# Altium schematic symbol library Sch_Lib.SchLib: 794 symbols (part 2 of 9)
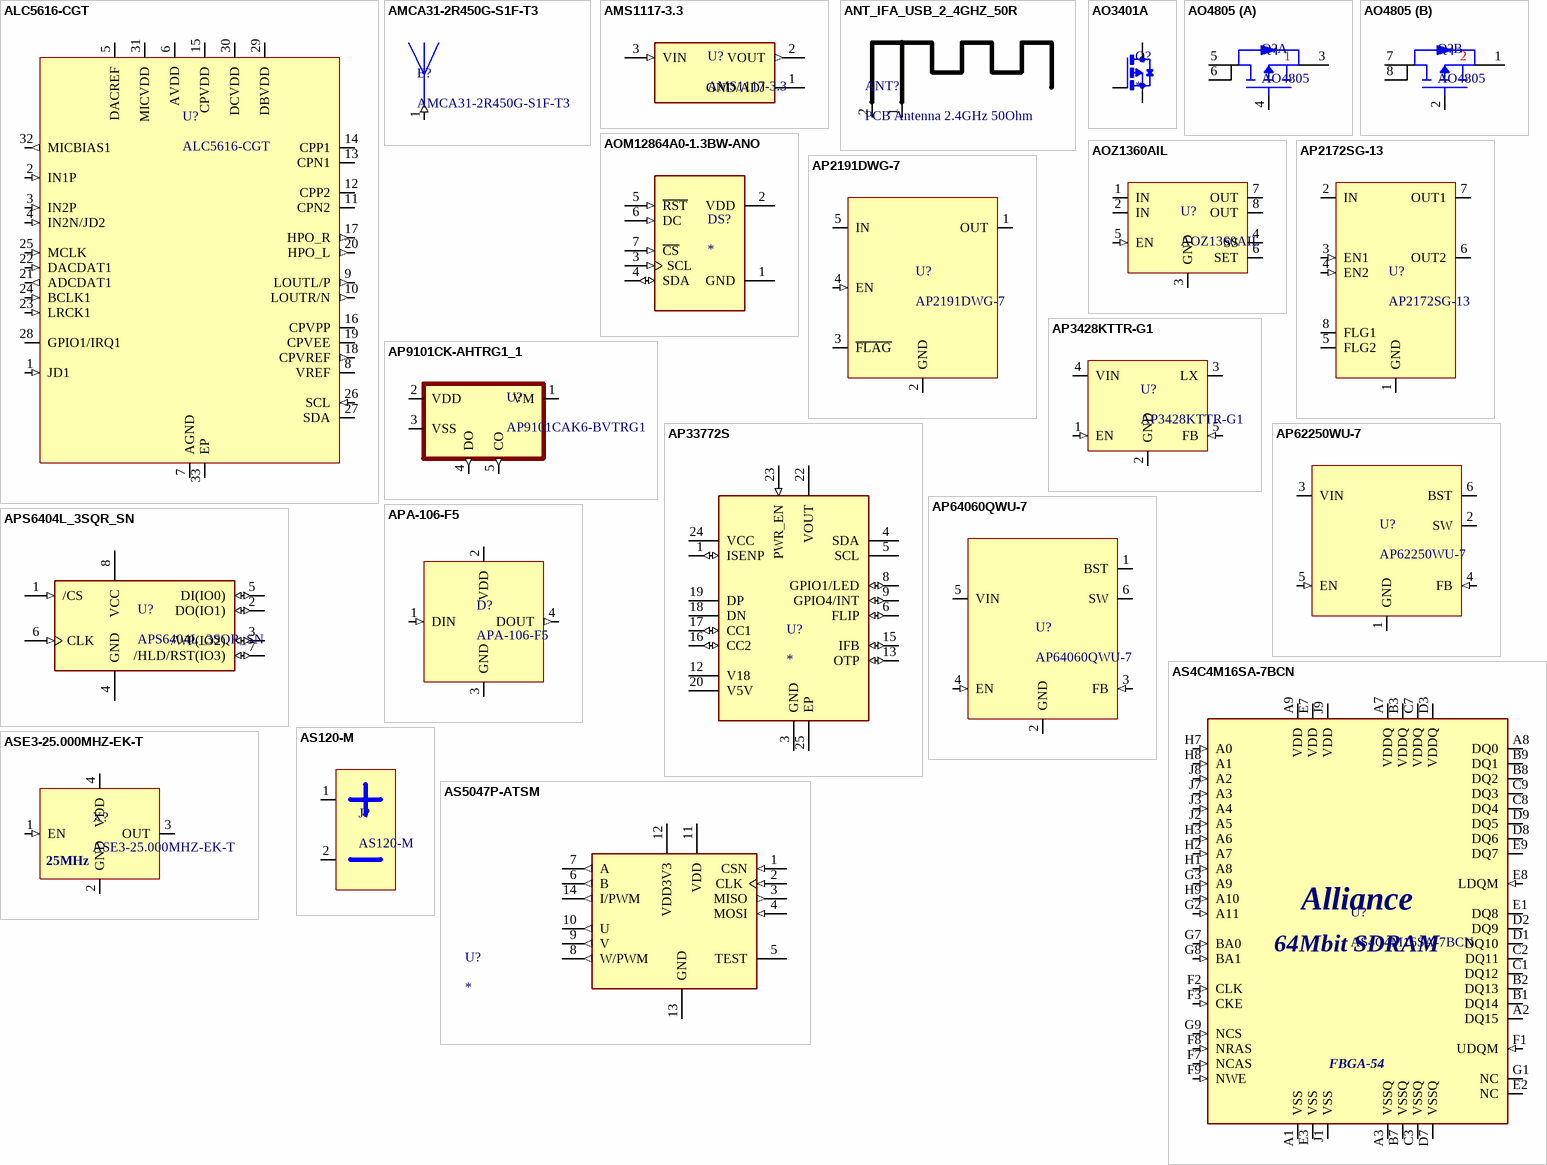
[diagram p46: symbols ALC5616-CGT to ASE3-25.000MHZ-EK-T]

## ALC5616-CGT
designator U?
Ultra-Low Power Audio CODEC; Manufacturer: Realtek; Manufacturer Part Number: ALC5616-CGT
footprint QFN-32-4x4 (QFN, 32-Leads, Body 4.00x4.00mm, Pitch 0.40mm, Thermal Pad 2.70x2.70mm, IPC Medium Density)
pins: 1 JD1 (in), 2 IN1P (in), 3 IN2P (in), 4 IN2N/JD2 (in), 5 DACREF (power), 6 AVDD (power), 7 AGND (power), 8 VREF (power), 9 LOUTL/P (out), 10 LOUTR/N (out), 11 CPN2 (power), 12 CPP2 (power), 13 CPN1 (power), 14 CPP1 (power), 15 CPVDD (power), 16 CPVPP, 17 HPO_R (out), 18 CPVREF (out), 19 CPVEE, 20 HPO_L (out), 21 ADCDAT1 (out), 22 DACDAT1 (in), 23 LRCK1 (in), 24 BCLK1 (in), 25 MCLK (in), 26 SCL (in), 27 SDA (io), 28 GPIO1/IRQ1 (io), 29 DBVDD (power), 30 DCVDD (power), 31 MICVDD (power), 32 MICBIAS1 (out), 33 EP (power)

## AMCA31-2R450G-S1F-T3
designator E?
2.4GHz Bluetooth, Wi-Fi, WLAN Chip RF Antenna 2.405GHz ~ 2.495GHz 0.5dBi Solder Surface Mount; MF: Abracon LLC; Check_prices: https://www.snapeda.com/parts/AMCA31-2R450G-S1F-T3/Abracon+LLC/view-part/?ref=eda; Purchase-URL: https://pricing.snapeda.com/search/part/AMCA31-2R450G-S1F-T3/?ref=eda; Value: *; Availability: In Stock; Package: None; SnapEDA_Link: https://www.snapeda.com/parts/AMCA31-2R450G-S1F-T3/Abracon+LLC/view-part/?ref=snap; MP: AMCA31-2R450G-S1F-T3; Price: None
footprint XDCR_AMCA31-2R450G-S1F-T3
pins: 1 (in)

## AMS1117-3.3
designator U?
Sot223/Pkg 1-Amp 3.3-Volt Low Drop Out Voltage Regulatator; MF: Advanced Monolithic Systems; Package: SOT-223 Seeed Technology; Value: *; Check_prices: https://www.snapeda.com/parts/AMS1117-3.3/Advanced+Monolithic+Systems/view-part/?ref=eda; Price: None; Availability: Not in stock; MP: AMS1117-3.3; SnapEDA_Link: https://www.snapeda.com/parts/AMS1117-3.3/Advanced+Monolithic+Systems/view-part/?ref=snap
footprint SOT229P700X180-4N
pins: 1 GND/ADJ (power), 2 VOUT (out), 3 VIN (in)

## ANT_IFA_USB_2_4GHZ_50R
designator ANT?, comment PCB Antenna 2.4GHz 50Ohm  (no BOM)
Inverted F 2.4GHz ISM PCB Antenna 50 Ohm; ComponentLink1Description: Datasheet; ComponentLink1URL: https://www.ti.com/lit/an/swra117d/swra117d.pdf
footprint ANT_IFA_USB_2_4GHZ_50R
pins: 1 RF, 2 GND

## AO3401A
designator Q?
P-Channel 30 V 4A (Ta) 1.4W (Ta) Surface Mount SOT-23-3; MF: Alpha & Omega Semiconductor; MP: AO3401A; SnapEDA_Link: https://www.snapeda.com/parts/AO3401A/Alpha/view-part/?ref=snap; Package: SOT-23 Alpha &amp; Omega Semiconductor; Value: *; Check_prices: https://www.snapeda.com/parts/AO3401A/Alpha/view-part/?ref=eda
footprint SOT23
pins: 1 G, 2 S, 3 D

## AO4805
designator Q?
MOSFET P-Channel Vds=-30V Vgs=+-25V Id=-9A Rds(on|=18mOhms; Manufacturer: Alpha & Omega Semicon; Manufacturer Part Number: AO4805; LCSC: C38943
footprint SOIC-8 (SOIC, 8-Leads, Body 4.91x3.90mm, Pitch 1.27mm, IPC Medium Density)
part A pins: 3 S1, 4 G1, 5 D1, 6 D1
part B pins: 1 S2, 2 G2, 7 D2, 8 D2

## AOM12864A0-1.3BW-ANO
designator DS?
Non-Touch Graphic LCD Display Module - Blue OLED SPI 1.3 (33.02mm) 128 x 64; MF: Orient Display; MP: AOM12864A0-1.3BW-ANO; SnapEDA_Link: https://www.snapeda.com/parts/AOM12864A0-1.3BW-ANO/Orient+Display/view-part/?ref=snap; Package: None; Value: *; Check_prices: https://www.snapeda.com/parts/AOM12864A0-1.3BW-ANO/Orient+Display/view-part/?ref=eda
footprint LCD_AOM12864A0-1.3BW-ANO
pins: 1 GND (power), 2 VDD (power), 3 SCL (in), 4 SDA (io), 5 ~{RST} (in), 6 DC (in), 7 ~{CS} (in)

## AOZ1360AIL
designator U?
28V Programmable Current-Limited Load Switch SO-8; Manufacturer: ALPHA & OMEGA SEMICON; Manufacturer Part Number: AOZ1360AIL
footprint SO-8L (SOIC, 8-Leads, Body 4.90x3.90mm, Pitch 1.27mm, IPC Medium Density)
pins: 1 IN (power), 2 IN (power), 3 GND (power), 4 SS, 5 EN (in), 6 SET (power), 7 OUT (power), 8 OUT (power)

## AP2172SG-13
designator U?
1A DUAL CHANNEL CURRENT-LIMITED POWER SWITCH Enable Active High; Manufacturer: Diodes Incorporated; Manufacturer Part Number: AP2172SG-13
footprint SO-8L (SOIC, 8-Leads, Body 4.90x3.90mm, Pitch 1.27mm, IPC Medium Density)
pins: 1 GND (power), 2 IN (power), 3 EN1 (in), 4 EN2 (in), 5 FLG2 (oc), 6 OUT2 (power), 7 OUT1 (power), 8 FLG1 (oc)

## AP2191DWG-7
designator U?
1.5A SINGLE CHANNEL CURRENT-LIMITED POWER SWITCH WITH OUTPUT DISCHARGE (ENABLE ACTIVE HIGH); Manufacturer: Diodes Incorporated; Manufacturer Part Number: AP2191DWG-7; Distributor Link: https://www.mouser.de/ProductDetail/Diodes-Incorporated/AP2191DWG-7?qs=abZ1nkZpTuNuhhoAfnXVRw%3D%3D
footprint SOT-23-5 (SOT23, 5-Leads, Body 2,90x2,80mm, Pitch 0,95mm, IPC Medium Density)
pins: 1 OUT (power), 2 GND (power), 3 ~{FLAG} (oc), 4 EN (in), 5 IN (power)

## AP3428KTTR-G1
designator U?
1.5MHZ, 1A STEP-DOWN DC-DC BUCK CONVERTER; Manufacturer: Diodes Incorporated; Manufacturer Part Number: AP3428KTTR-G1
footprint TSOT25 (SOT23, 5-Leads, Body 2.90x2.80mm, Pitch 0.95mm, IPC Medium Density)
pins: 1 EN (in), 2 GND (power), 3 LX (power), 4 VIN (power), 5 FB (in)

## AP9101CK-AHTRG1_1
designator U?, comment AP9101CAK6-BVTRG1
1-Cell Li-On Battery Charger and Protection IC; Manufacturer: Diodes Incorporated; Manufacturer Part Number: AP9101CAK6-BVTRG1; Distributor Link: https://www.mouser.de/ProductDetail/Diodes-Incorporated/AP9101CAK6-BVTRG1?qs=lQAVKuKFhkK%2FBM4lfGfubA%3D%3D
footprint SOT-23-5 (SOT23, 5-Leads, Body 2,90x2,80mm, Pitch 0,95mm, IPC Medium Density)
pins: 1 VM (power), 2 VDD (power), 3 VSS (power), 4 DO (out), 5 CO (out)

## AP33772S
designator U?
USB Controller, PD Sink USB 3.0 USB Interface W-QFN4040-24 (Type A1); MF: Diodes Incorporated; MP: AP33771DKZ-13; Package: None; Price: None; Check_prices: https://www.snapeda.com/parts/AP33771DKZ-13/Diodes+Inc./view-part/?ref=eda; Value: *; SnapEDA_Link: https://www.snapeda.com/parts/AP33771DKZ-13/Diodes+Inc./view-part/?ref=snap; Availability: In Stock; Purchase-URL: https://pricing.snapeda.com/search?q=AP33771DKZ-13&ref=eda
footprint IC_AP33772S
pins: 1 ISENP (io), 3 GND (power), 4 SDA, 5 SCL, 6 FLIP (io), 8 GPIO1/LED (io), 9 GPIO4/INT (io), 12 V18 (power), 13 OTP (io), 15 IFB (io), 16 CC2 (io), 17 CC1 (io), 18 DN, 19 DP, 20 V5V (power), 22 VOUT (power), 23 PWR_EN (in), 24 VCC (power), 25 EP (power)

## AP62250WU-7
designator U?
4.2V TO 18V INPUT, 2.5A LOW IQ SYNCHRONOUS BUCK CONVERTER; Manufacturer: Diodes Incorporated; Manufacturer Part Number: AP62250WU-7; Distributor Link: https://www.mouser.de/ProductDetail/Diodes-Incorporated/AP62250WU-7?qs=7MVldsJ5Uax1PUc8sdeimQ%3D%3D
footprint TSOT-26-6 (TSOP, 6-Leads, Body 2.90x1.60mm, Pitch 0.95mm, IPC Medium Density)
pins: 1 GND (power), 2 SW (power), 3 VIN (power), 4 FB (in), 5 EN (in), 6 BST (power)

## AP64060QWU-7
designator U?
4.5V TO 40V INPUT, 600mA SYNCHRONOUS BUCK WITH ENHANCED EMI REDUCTION; Manufacturer: Diodes Incorporated; Manufacturer Part Number: AP64060QWU-7; Distributor Link: https://eu.mouser.com/ProductDetail/Diodes-Incorporated/AP64060QWU-7?qs=Li%252BoUPsLEnvtPycFvZmEcQ%3D%3D
footprint TSOT-26-6 (TSOP, 6-Leads, Body 2.90x1.60mm, Pitch 0.95mm, IPC Medium Density)
pins: 1 BST (power), 2 GND (power), 3 FB (in), 4 EN (in), 5 VIN (power), 6 SW (power)

## APA-106-F5
designator D?
Addressable RGB LED 5MM THT; Manufacturer: iPixel; Manufacturer Part Number: APA-106-F5; Datasheet: https://www.mouser.de/datasheet/2/813/COM_12877-2489746.pdf
footprint LED_RGB_5MM_THT
pins: 1 DIN (in), 2 VDD (power), 3 GND (power), 4 DOUT (out)

## APS6404L_3SQR_SN
designator U?
SOP-8L 8MB DRAM ROHS; MPN: APS6404L-3SQN-SN; Manufacturer: AP Memory; LCSC NO: C3028887; ComponentLink1Description: LCSC Link; ComponentLink1URL: https://www.lcsc.com/product-detail/DRAM_AP-Memory-APS6404L-3SQN-SN_C3028887.html?s_z=n_APS6404L-32qr-sn
footprint SOIC-8 (SOIC, 8-Leads, Body 4.91x3.90mm, Pitch 1.27mm, IPC Medium Density)
pins: 1 /CS (in), 2 DO(IO1) (io), 3 /WP(IO2) (io), 4 GND (power), 5 DI(IO0) (io), 6 CLK (in), 7 /HLD/RST(IO3) (io), 8 VCC (power)

## AS4C4M16SA-7BCN
designator U?
64M (4M x 16 bit) Synchronous DRAM (SDRAM) FBGA-54; Manufacturer: Alliance Memory; Manufacturer Part Number: AS4C4M16SA-7BCN
footprint BGA54C80P9X9_800X800X120 (BGA, 54-Leads, Body 8.00x8.00mmx1.20mm, Pitch 0.80mm)
pins: A1 VSS (power), A2 DQ15 (io), A3 VSSQ (power), A7 VDDQ (power), A8 DQ0 (io), A9 VDD (power), B1 DQ14 (io), B2 DQ13 (io), B3 VDDQ (power), B7 VSSQ (power), B8 DQ2 (io), B9 DQ1 (io), C1 DQ12 (io), C2 DQ11 (io), C3 VSSQ (power), C7 VDDQ (power), C8 DQ4 (io), C9 DQ3 (io), D1 DQ10 (io), D2 DQ9 (io), D3 VDDQ (power), D7 VSSQ (power), D8 DQ6 (io), D9 DQ5 (io), E1 DQ8 (io), E2 NC, E3 VSS (power), E7 VDD (power), E8 LDQM (in), E9 DQ7 (io), F1 UDQM (in), F2 CLK (in), F3 CKE (in), F7 NCAS (in), F8 NRAS (in), F9 NWE (in), G1 NC, G2 A11 (in), G3 A9 (in), G7 BA0 (in), G8 BA1 (in), G9 NCS (in), H1 A8 (in), H2 A7 (in), H3 A6 (in), H7 A0 (in), H8 A1 (in), H9 A10 (in), J1 VSS (power), J2 A5 (in), J3 A4 (in), J7 A3 (in), J8 A2 (in), J9 VDD (power)
text: Alliance; 64Mbit SDRAM; FBGA-54

## AS120-M
designator J?
AS120 male 2-pin AMASS; Manufacturer: AMASS; Manufacturer Part Number: AS120-M
footprint AS120-M
pins: 1 V+ (power), 2 V- (power)

## AS5047P-ATSM
designator U?
Rotary Encoder Magnetic Programmable PWM -; MF: ams; MP: AS5047P-ATSM; SnapEDA_Link: https://www.snapeda.com/parts/AS5047P-ATSM/ams/view-part/?ref=snap; Package: TSSOP-14 ams; Value: *; Check_prices: https://www.snapeda.com/parts/AS5047P-ATSM/ams/view-part/?ref=eda
footprint SOP65P640X120-14N
pins: 1 CSN (in), 2 CLK (in), 3 MISO (out), 4 MOSI (in), 5 TEST, 6 B (out), 7 A (out), 8 W/PWM (out), 9 V (out), 10 U (out), 11 VDD (power), 12 VDD3V3 (power), 13 GND (power), 14 I/PWM (out)

## ASE3-25.000MHZ-EK-T
designator X?
Standard Clock Oscillators 25 MHZ 1.8V 15PF 4-PIN 3.2mm x 2.5mm; Manufacturer: ABRACON; Manufacturer Part Number: ASE3-25.000MHZ-EK-T
footprint XTAL_3225
pins: 1 EN (in), 2 GND (power), 3 OUT, 4 VDD (power)
text: 25MHz

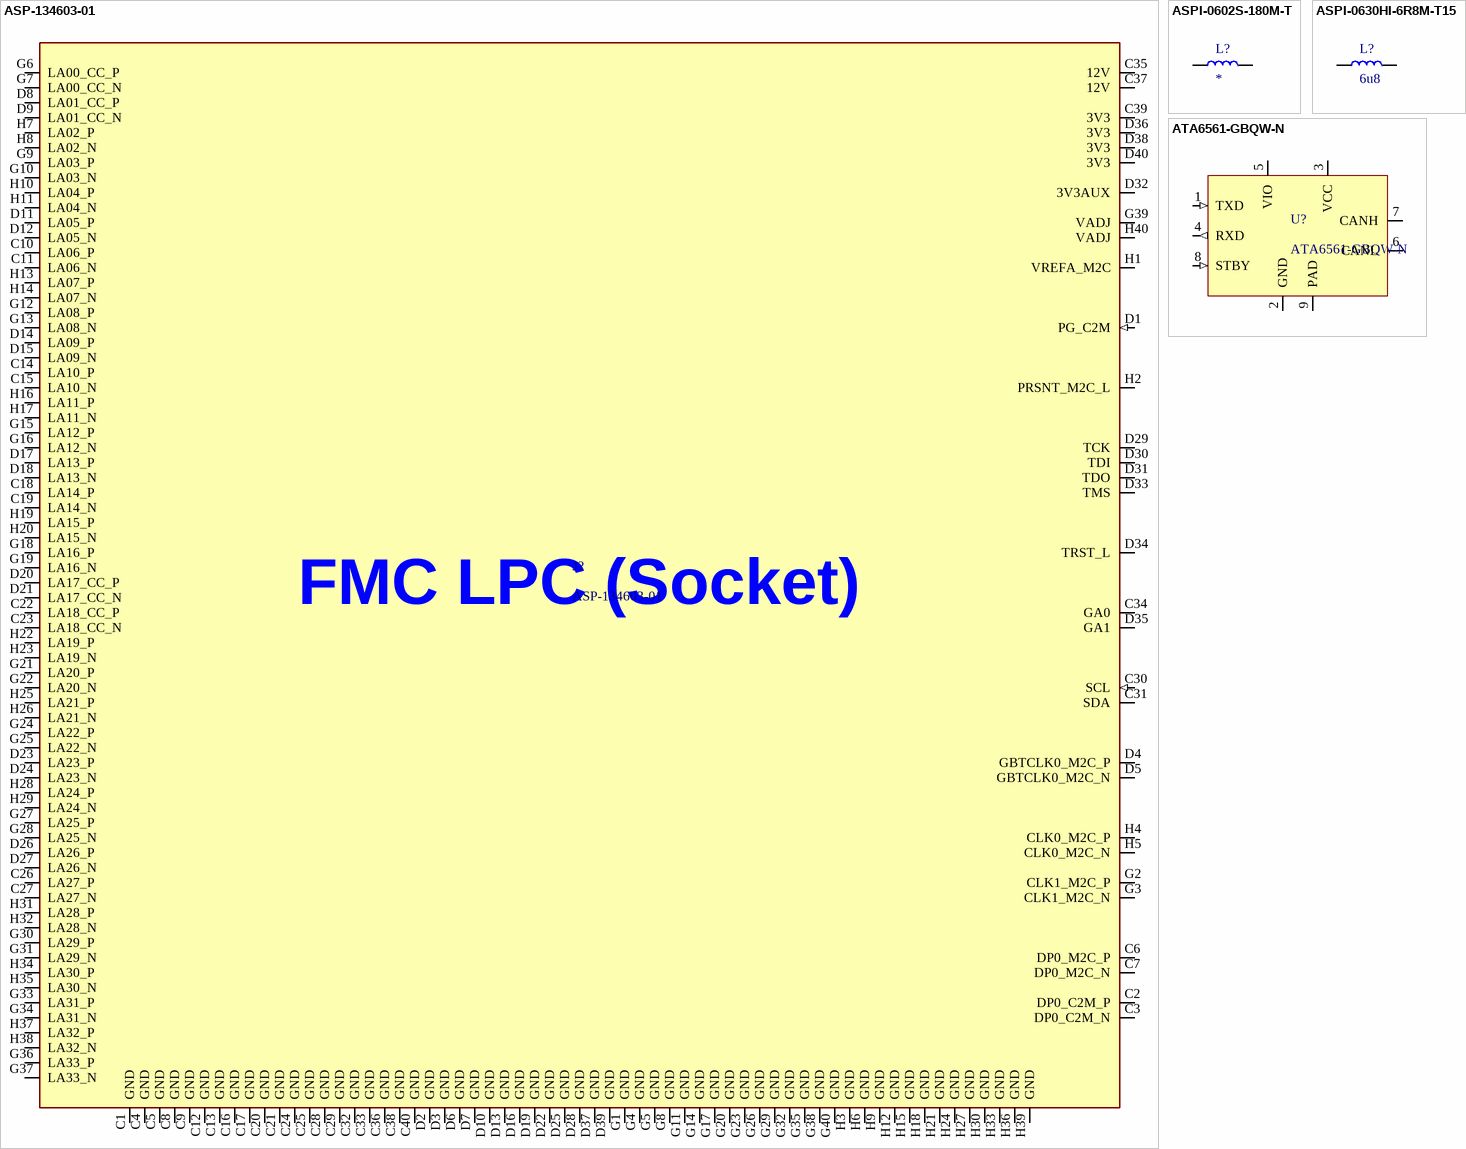
[diagram p6: symbols ASP-134603-01 to ATA6561-GBQW-N]

## ASP-134603-01
designator J?
VITA 57.1 FMC Connector LPC; Manufacturer: Samtec; Manufacturer Part Number: ASP-134603-01; Distributor Link: https://www.mouser.de/ProductDetail/Samtec/ASP-134603-01?qs=92ilVni64gy4PAaa88apew%3D%3D
footprint ASP-134603-01
pins: C1 GND (power), C2 DP0_C2M_P (io), C3 DP0_C2M_N (io), C4 GND (power), C5 GND (power), C6 DP0_M2C_P (io), C7 DP0_M2C_N (io), C8 GND (power), C9 GND (power), C10 LA06_P (io), C11 LA06_N (io), C12 GND (power), C13 GND (power), C14 LA10_P (io), C15 LA10_N (io), C16 GND (power), C17 GND (power), C18 LA14_P (io), C19 LA14_N (io), C20 GND (power), C21 GND (power), C22 LA18_CC_P (io), C23 LA18_CC_N (io), C24 GND (power), C25 GND (power), C26 LA27_P (io), C27 LA27_N (io), C28 GND (power), C29 GND (power), C30 SCL (in), C31 SDA (io), C32 GND (power), C33 GND (power), C34 GA0 (io), C35 12V (power), C36 GND, C37 12V (power), C38 GND, C39 3V3 (power), C40 GND, D1 PG_C2M (in), D2 GND (power), D3 GND (power), D4 GBTCLK0_M2C_P (io), D5 GBTCLK0_M2C_N (io), D6 GND (power), D7 GND (power), D8 LA01_CC_P (io), D9 LA01_CC_N (io), D10 GND (power), D11 LA05_P (io), D12 LA05_N (io), D13 GND (power), D14 LA09_P (io), D15 LA09_N (io), D16 GND (power), D17 LA13_P (io), D18 LA13_N (io), D19 GND (power), D20 LA17_CC_P (io), D21 LA17_CC_N (io), D22 GND (power), D23 LA23_P (io), D24 LA23_N (io), D25 GND (power), D26 LA26_P (io), D27 LA26_N (io), D28 GND (power), D29 TCK (io), D30 TDI (io), D31 TDO (io), D32 3V3AUX (power), D33 TMS (io), D34 TRST_L (io), D35 GA1 (io), D36 3V3 (power), D37 GND (power), D38 3V3 (power), D39 GND (power), D40 3V3 (power), G1 GND (power), G2 CLK1_M2C_P (io), G3 CLK1_M2C_N (io), G4 GND (power), G5 GND (power), G6 LA00_CC_P (io), G7 LA00_CC_N (io), G8 GND (power), G9 LA03_P (io), G10 LA03_N (io), G11 GND (power), G12 LA08_P (io), G13 LA08_N (io), G14 GND (power), G15 LA12_P (io), G16 LA12_N (io), G17 GND (power), G18 LA16_P (io), G19 LA16_N (io), G20 GND (power), G21 LA20_P (io), G22 LA20_N (io), G23 GND (power), G24 LA22_P (io), G25 LA22_N (io), G26 GND (power), G27 LA25_P (io), G28 LA25_N (io), G29 GND (power), G30 LA29_P (io), G31 LA29_N (io), G32 GND (power), G33 LA31_P (io), G34 LA31_N (io), G35 GND (power), G36 LA33_P (io), G37 LA33_N (io), G38 GND (power), G39 VADJ (power), G40 GND (power), H1 VREFA_M2C (power), H2 PRSNT_M2C_L (io), H3 GND (power), H4 CLK0_M2C_P (io), H5 CLK0_M2C_N (io), H6 GND (power), H7 LA02_P (io), H8 LA02_N (io), H9 GND (power), H10 LA04_P (io), H11 LA04_N (io), H12 GND (power), H13 LA07_P (io), H14 LA07_N (io), H15 GND (power), H16 LA11_P (io), H17 LA11_N (io), H18 GND (power), H19 LA15_P (io), H20 LA15_N (io), H21 GND (power), H22 LA19_P (io), H23 LA19_N (io), H24 GND (power), H25 LA21_P (io), H26 LA21_N (io), H27 GND (power), H28 LA24_P (io), H29 LA24_N (io), H30 GND (power), H31 LA28_P (io), H32 LA28_N (io), H33 GND (power), H34 LA30_P (io), H35 LA30_N (io), H36 GND (power), H37 LA32_P (io), H38 LA32_N (io), H39 GND (power), H40 VADJ (power)
text: FMC LPC (Socket)

## ASPI-0602S-180M-T
designator L?
18 ÂµH Shielded Drum Core, Wirewound Inductor 1.32 A 95mOhm Max Nonstandard; MF: Abracon; MP: ASPI-0602S-180M-T; SnapEDA_Link: https://www.snapeda.com/parts/ASPI-0602S-180M-T/Abracon/view-part/?ref=snap; Package: Nonstandard Abracon; Value: *; Check_prices: https://www.snapeda.com/parts/ASPI-0602S-180M-T/Abracon/view-part/?ref=eda
footprint IND_ASPI-0602S-180M-T
pins: 1, 2

## ASPI-0630HI-6R8M-T15
designator L?, comment 6u8
Inductor SMD 6.8uH 20% 8A Shielded; Manufacturer: ABRACON; Manufacturer Part Number: ASPI-0630HI-6R8M-T15
footprint ASPI-0630HI-6R8M-T15
pins: 1, 2

## ATA6561-GBQW-N
designator U?
CAN Interface IC High-Speed FD VDFN-8; Manufacturer: Microchip; Manufacturer Part Number: ATA6561-GBQW-N; Distributor Link: https://www.mouser.de/ProductDetail/Microchip-Technology/ATA6561-GBQW-N?qs=y6ZabgHbY%252BxuRHjTmdpZUA%3D%3D; LCSC: C617297
footprint VDFN-8
pins: 1 TXD (in), 2 GND (power), 3 VCC (power), 4 RXD (out), 5 VIO (power), 6 CANL (io), 7 CANH (io), 8 STBY (in), 9 PAD (power)

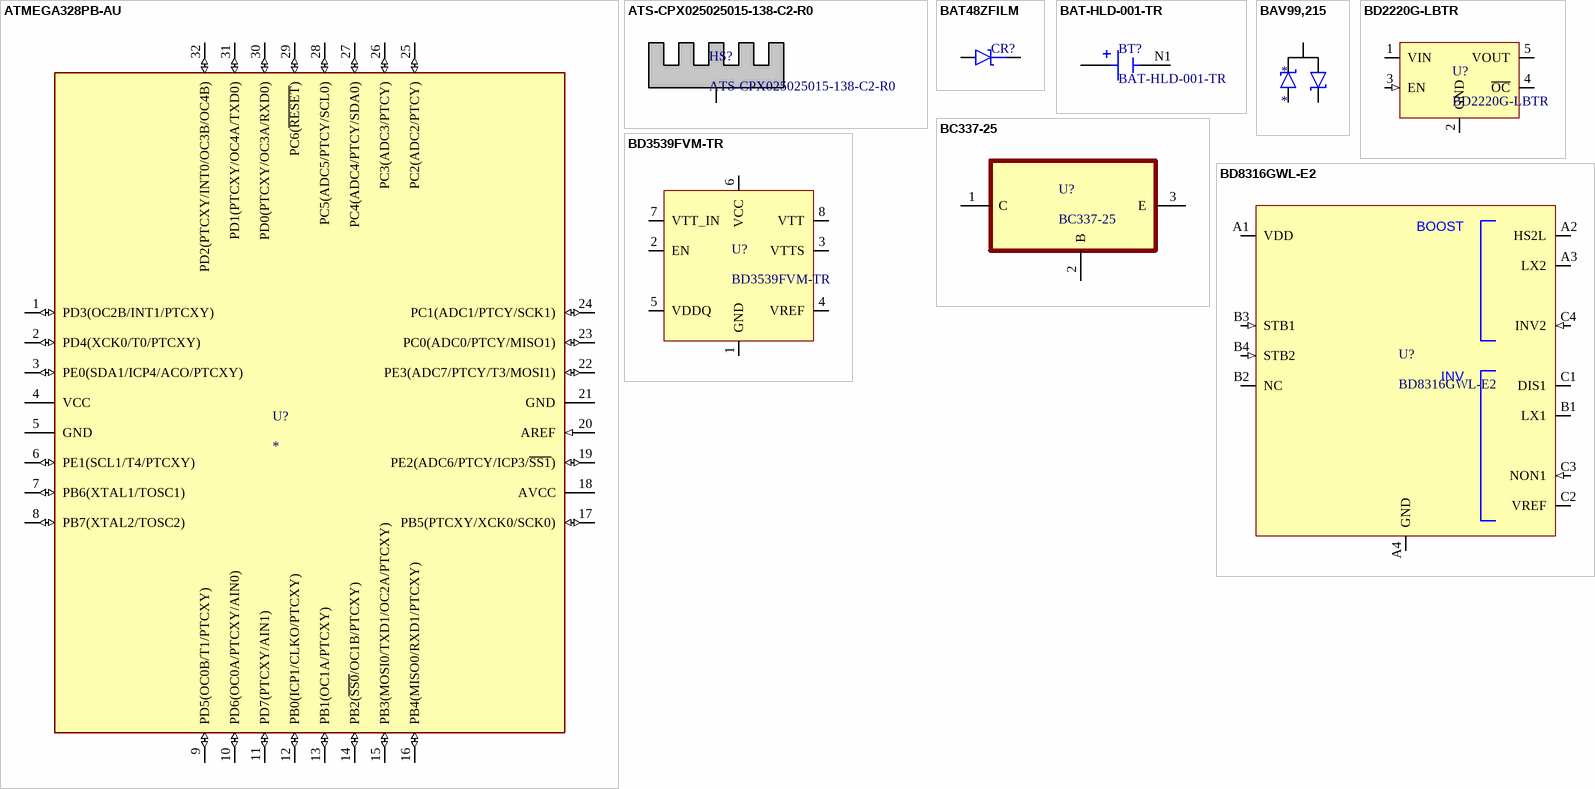
[diagram p7: symbols ATMEGA328PB-AU to BD8316GWL-E2]

## ATMEGA328PB-AU
designator U?
AVR AVRÂ® ATmega, Functional Safety (FuSa) Microcontroller IC 8-Bit 20MHz 32KB (16K x 16) FLASH 32-TQFP (7x7); MF: Microchip Technology; MP: ATMEGA328PBAU; SnapEDA_Link: https://www.snapeda.com/parts/ATMEGA328PBAU/Microchip+Technology/view-part/?ref=snap; Package: None; Value: *; Check_prices: https://www.snapeda.com/parts/ATMEGA328PBAU/Microchip+Technology/view-part/?ref=eda
footprint QFP80P900X900X120-32N
pins: 1 PD3(OC2B/INT1/PTCXY) (io), 2 PD4(XCK0/T0/PTCXY) (io), 3 PE0(SDA1/ICP4/ACO/PTCXY) (io), 4 VCC (power), 5 GND (power), 6 PE1(SCL1/T4/PTCXY) (io), 7 PB6(XTAL1/TOSC1) (io), 8 PB7(XTAL2/TOSC2) (io), 9 PD5(OC0B/T1/PTCXY) (io), 10 PD6(OC0A/PTCXY/AIN0) (io), 11 PD7(PTCXY/AIN1) (io), 12 PB0(ICP1/CLKO/PTCXY) (io), 13 PB1(OC1A/PTCXY) (io), 14 PB2(~{SS0}/OC1B/PTCXY) (io), 15 PB3(MOSI0/TXD1/OC2A/PTCXY) (io), 16 PB4(MISO0/RXD1/PTCXY) (io), 17 PB5(PTCXY/XCK0/SCK0) (io), 18 AVCC (power), 19 PE2(ADC6/PTCY/ICP3/~{SS1}) (io), 20 AREF (in), 21 GND (power), 22 PE3(ADC7/PTCY/T3/MOSI1) (io), 23 PC0(ADC0/PTCY/MISO1) (io), 24 PC1(ADC1/PTCY/SCK1) (io), 25 PC2(ADC2/PTCY) (io), 26 PC3(ADC3/PTCY) (io), 27 PC4(ADC4/PTCY/SDA0) (io), 28 PC5(ADC5/PTCY/SCL0) (io), 29 PC6(~{RESET}) (io), 30 PD0(PTCXY/OC3A/RXD0) (io), 31 PD1(PTCXY/OC4A/TXD0) (io), 32 PD2(PTCXY/INT0/OC3B/OC4B) (io)

## ATS-CPX025025015-138-C2-R0
designator HS?
pushPIN™ Heat Sink 25x25x15mm; Manufacturer: ATS; Manufacturer Part Number: ATS-CPX025025015-138-C2-R0; Distributor Link: https://www.digikey.de/en/products/detail/advanced-thermal-solutions-inc/ATS-CPX025025015-138-C2-R0/4754010
footprint ATS-CPX025025015-138-C2-R0
pins: MH

## BAT48ZFILM
designator CR?  (value not drawn)
Diode Schottky 40 V 350mA (DC) Surface Mount SOD-123; MF: STMicroelectronics; MP: BAT48ZFILM; SnapEDA_Link: https://www.snapeda.com/parts/BAT48ZFILM/STMicroelectronics/view-part/?ref=snap; Package: SOD-123 STMicroelectronics; Check_prices: https://www.snapeda.com/parts/BAT48ZFILM/STMicroelectronics/view-part/?ref=eda; Value: *
footprint *SOD-123_STM
pins: 1, 2

## BAT-HLD-001-TR
designator BT?
Battery Retainer Coin, 20.0mm 1 Cell SMD (SMT) Tab; Availability: Unavailable; Package: None; MP: BAT-HLD-001-TR; Value: *; Price: None
footprint BAT_BAT-HLD-001-TR
pins: N1 NEG, P1 POS, P2 POS

## BAV99,215
designator *
4A 4ns 100V 1 Pair Series Connection 1.25V@150mA 215mA SOT-23 Single Diodes RoHS
footprint SOT95P230X110-3N
pins: 1, 2, 3

## BC337-25
designator U?
Bipolar (BJT) Transistor NPN 45 V 800 mA 100MHz 625 mW Through Hole TO-92; MF: Diotec Semiconductor; SnapEDA_Link: https://www.snapeda.com/parts/BC337-25/Diotec/view-part/?ref=snap; Price: None; Check_prices: https://www.snapeda.com/parts/BC337-25/Diotec/view-part/?ref=eda; Value: *; Package: TO-92-3 Diotec; Availability: In Stock; Purchase-URL: https://pricing.snapeda.com/search/part/BC337-25/?ref=eda; MP: BC337-25
footprint TO127P254X732-3
pins: 1 C, 2 B, 3 E

## BD2220G-LBTR
designator U?
High-Side USB Current Limited Power Distribution Switch 1A SMD; Manufacturer: ROHM Semiconductor; Manufacturer Part Number: BD2220G-LBTR
footprint SSOP5
pins: 1 VIN (power), 2 GND (power), 3 EN (in), 4 ~{OC}, 5 VOUT

## BD3539FVM-TR
designator U?
1.0V to 5.5V, 1A 1Ch Termination Regulator for DDR-SDRAMs; Manufacturer: ROHM Semiconductor; Manufacturer Part Number: BD3539FVM-TR
footprint MSOP8 (TSOP, 8-Leads, Body 2.90x2.80mm, Pitch 0.65mm, IPC Medium Density)
pins: 1 GND, 2 EN, 3 VTTS, 4 VREF, 5 VDDQ, 6 VCC, 7 VTT_IN, 8 VTT

## BD8316GWL-E2
designator U?
Step-up and inverted 2-channel DC/DC converter with Built-in Power MOSFET 1.6MHz 1A; Manufacturer: ROHM; Manufacturer Part Number: BD8316GWL-E2; Distributor Link: https://www.mouser.de/ProductDetail/ROHM-Semiconductor/BD8316GWL-E2?qs=9Cg39qEKpi4sbGytSKsU5Q%3D%3D
footprint UCSP50L1
pins: A1 VDD (power), A2 HS2L (power), A3 LX2 (power), A4 GND (power), B1 LX1 (power), B2 NC, B3 STB1 (in), B4 STB2 (in), C1 DIS1 (power), C2 VREF (power), C3 NON1 (in), C4 INV2 (in)
text: BOOST; INV

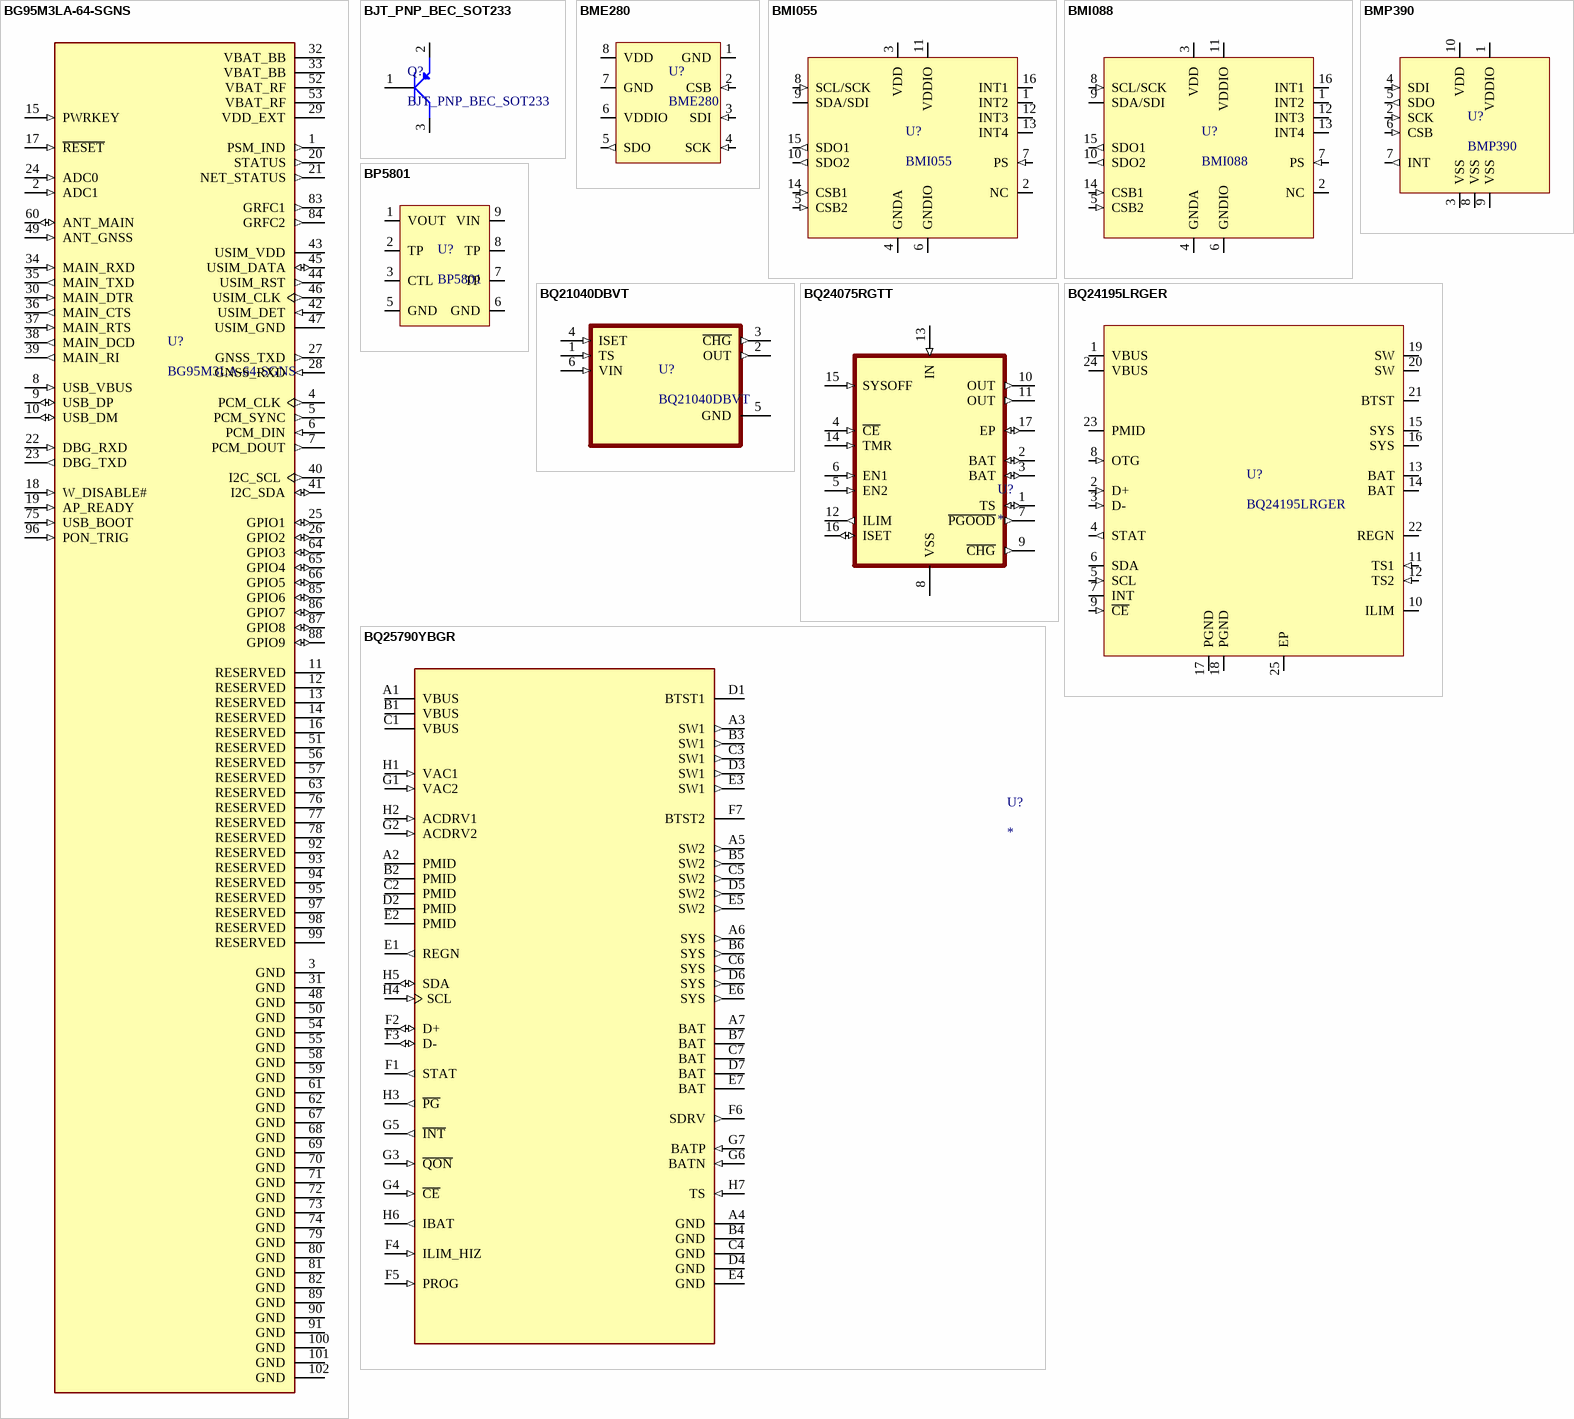
[diagram p8: symbols BG95M3LA-64-SGNS to BQ25790YBGR]

## BG95M3LA-64-SGNS
designator U?
Quectel BG95 Series LTE Cat M1/ Cat NB2/ EGPRS Module; MF: Quectel Wireless Solutions Co., Ltd; Purchase-URL: https://pricing.snapeda.com/search/part/BG95M3LA-64-SGNS/?ref=eda; Digi-Key_Part_Number: 2958-BG95M3LA-64-SGNSCT-ND; Check_prices: https://www.snapeda.com/parts/BG95M3LA-64-SGNS/Quectel/view-part/?ref=eda; Value: *; MP: BG95M3LA-64-SGNS; Package: Non-Standard Quectel; SnapEDA_Link: https://www.snapeda.com/parts/BG95M3LA-64-SGNS/Quectel/view-part/?ref=snap
footprint XCVR_BG95M3LA-64-SGNS
pins: 1 PSM_IND (out), 2 ADC1 (in), 3 GND (power), 4 PCM_CLK (out), 5 PCM_SYNC (out), 6 PCM_DIN (in), 7 PCM_DOUT (out), 8 USB_VBUS (in), 9 USB_DP (io), 10 USB_DM (io), 11 RESERVED, 12 RESERVED, 13 RESERVED, 14 RESERVED, 15 PWRKEY (in), 16 RESERVED, 17 ~{RESET} (in), 18 W_DISABLE# (in), 19 AP_READY (in), 20 STATUS (out), 21 NET_STATUS (out), 22 DBG_RXD (in), 23 DBG_TXD (out), 24 ADC0 (in), 25 GPIO1 (io), 26 GPIO2 (io), 27 GNSS_TXD (out), 28 GNSS_RXD (in), 29 VDD_EXT (power), 30 MAIN_DTR (in), 31 GND (power), 32 VBAT_BB (power), 33 VBAT_BB (power), 34 MAIN_RXD (in), 35 MAIN_TXD (out), 36 MAIN_CTS (out), 37 MAIN_RTS (in), 38 MAIN_DCD (out), 39 MAIN_RI (out), 40 I2C_SCL (out), 41 I2C_SDA (io), 42 USIM_DET (in), 43 USIM_VDD (power), 44 USIM_RST (out), 45 USIM_DATA (io), 46 USIM_CLK (out), 47 USIM_GND (power), 48 GND (power), 49 ANT_GNSS (in), 50 GND (power), 51 RESERVED, 52 VBAT_RF (power), 53 VBAT_RF (power), 54 GND (power), 55 GND (power), 56 RESERVED, 57 RESERVED, 58 GND (power), 59 GND (power), 60 ANT_MAIN (io), 61 GND (power), 62 GND (power), 63 RESERVED, 64 GPIO3 (io), 65 GPIO4 (io), 66 GPIO5 (io), 67 GND (power), 68 GND (power), 69 GND (power), 70 GND (power), 71 GND (power), 72 GND (power), 73 GND (power), 74 GND (power), 75 USB_BOOT (in), 76 RESERVED, 77 RESERVED, 78 RESERVED, 79 GND (power), 80 GND (power), 81 GND (power), 82 GND (power), 83 GRFC1 (out), 84 GRFC2 (out), 85 GPIO6 (io), 86 GPIO7 (io), 87 GPIO8 (io), 88 GPIO9 (io), 89 GND (power), 90 GND (power), 91 GND (power), 92 RESERVED, 93 RESERVED, 94 RESERVED, 95 RESERVED, 96 PON_TRIG (in), 97 RESERVED, 98 RESERVED, 99 RESERVED, 100 GND (power), 101 GND (power), 102 GND (power)

## BJT_PNP_BEC_SOT233
designator Q?
Transistor BJT PNP SOT-23-3 Package Base=1 Emitter=2 Collector=3
footprint SOT-23-3
pins: 1 B, 2 E, 3 C

## BME280
designator U?
Temperature and Humidity Sensor ROHS; Manufacturer: Bosch Sensortec; MPN: BME280; LCSC NO: C92489; ComponentLink1Description: LCSC Link; ComponentLink1URL: https://lcsc.com/product-detail/Temperature-and-Humidity-Sensor_Bosch-Sensortec-BME280_C92489.html?s_z=n_bme280
footprint BME_PSON65P250X250X100-8N
pins: 1 GND (power), 2 CSB (in), 3 SDI (in), 4 SCK (in), 5 SDO (out), 6 VDDIO (power), 7 GND (power), 8 VDD (power)

## BMI055
designator U?
Inertial Measurement Unit IMU 6-Axis LGA; Manufacturer: Bosch; Manufacturer Part Number: BMI055; LCSC: C189620
footprint BMI088
pins: 1 INT2 (io), 2 NC, 3 VDD (power), 4 GNDA (power), 5 CSB2 (in), 6 GNDIO (power), 7 PS (in), 8 SCL/SCK (in), 9 SDA/SDI (io), 10 SDO2 (out), 11 VDDIO (power), 12 INT3 (io), 13 INT4 (io), 14 CSB1 (in), 15 SDO1 (out), 16 INT1 (io)

## BMI088
designator U?
Inertial Measurement Unit IMU 6-Axis LGA; Manufacturer: Bosch; Manufacturer Part Number: BMI088
footprint BMI088
pins: 1 INT2 (io), 2 NC, 3 VDD (power), 4 GNDA (power), 5 CSB2 (in), 6 GNDIO (power), 7 PS (in), 8 SCL/SCK (in), 9 SDA/SDI (io), 10 SDO2 (out), 11 VDDIO (power), 12 INT3 (io), 13 INT4 (io), 14 CSB1 (in), 15 SDO1 (out), 16 INT1 (io)

## BMP390
designator U?
Digital Pressure Sensor SPI/I2C; Manufacturer: Bosch; Manufacturer Part Number: BMP390; Distributor Link: https://www.mouser.de/ProductDetail/Bosch-Sensortec/BMP390?qs=QNEnbhJQKvYQVfvRMgo2YA%3D%3D
footprint LGA10_BMP390
pins: 1 VDDIO (power), 2 SCK (in), 3 VSS (power), 4 SDI (in), 5 SDO (out), 6 CSB (in), 7 INT (out), 8 VSS (power), 9 VSS (power), 10 VDD (power)

## BP5801
designator U?
IC MOTOR DRIVER 12V-15V 9SIP
footprint CONV_TRV_1-1223M
pins: 1 VOUT, 2 TP, 3 CTL, 5 GND, 6 GND, 7 TP, 8 TP, 9 VIN

## BQ21040DBVT
designator U?
1-cell, 0.8-A Li-ion and Li-polymer battery charger; MF: Texas Instruments; SnapEDA_Link: https://www.snapeda.com/parts/BQ21040DBVT/Texas+Instruments/view-part/?ref=snap; Package: SOT-23-6 Texas Instruments; Value: *; MP: BQ21040DBVT; Check_prices: https://www.snapeda.com/parts/BQ21040DBVT/Texas+Instruments/view-part/?ref=eda
footprint SOT95P280X145-6N
pins: 1 TS (in), 2 OUT (out), 3 ~{CHG} (out), 4 ISET (in), 5 GND (power), 6 VIN (in)

## BQ24075RGTT
designator U?
Standalone 1-cell 1.5-A linear battery charger, Power Path, 4.2-V VBAT and 5.5-V VOUT; MF: Texas Instruments; MP: BQ24075RGTT; SnapEDA_Link: https://www.snapeda.com/parts/BQ24075RGTT/Texas+Instruments/view-part/?ref=snap; Package: VQFN-16 Texas Instruments; Value: *; Check_prices: https://www.snapeda.com/parts/BQ24075RGTT/Texas+Instruments/view-part/?ref=eda
footprint QFN50P300X300X100-17N
pins: 1 TS (io), 2 BAT (io), 3 BAT (io), 4 ~{CE} (in), 5 EN2 (in), 6 EN1 (in), 7 ~{PGOOD} (out), 8 VSS (power), 9 ~{CHG} (out), 10 OUT (out), 11 OUT (out), 12 ILIM (out), 13 IN (in), 14 TMR (in), 15 SYSOFF (in), 16 ISET (io), 17 EP (io)

## BQ24195LRGER
designator U?
I2C Controlled 2.5-A /4.5-A Single Cell USB/Adapter Charger with 5.1 V at 1A /5.1 V at 2.1 A Synchronous Boost Operation; Manufacturer: Texas Instruments; Manufacturer Part Number: BQ24195LRGER; Distributor Link: https://www.mouser.de/ProductDetail/Texas-Instruments/BQ24195LRGER?qs=E2%2FxqS9xjzoHv98LC15jGg%3D%3D
footprint QFN-24 (QFN, 24-Leads, Body 4.00x4.00mm, Pitch 0.50mm, Thermal Pad 2.50x2.50mm, IPC Medium Density)
pins: 1 VBUS (power), 2 D+ (in), 3 D- (in), 4 STAT (out), 5 SCL (in), 6 SDA (io), 7 INT (oc), 8 OTG (in), 9 ~{CE} (in), 10 ILIM, 11 TS1 (in), 12 TS2 (in), 13 BAT (power), 14 BAT (power), 15 SYS (power), 16 SYS (power), 17 PGND (power), 18 PGND (power), 19 SW (oe), 20 SW (power), 21 BTST (power), 22 REGN (power), 23 PMID (power), 24 VBUS (power), 25 EP (power)

## BQ25790YBGR
designator U?
Integrated, NVDC, 5-A 1-cell to 4-cell switch-mode buck-boost battery charger; MF: Texas Instruments; MP: BQ25790YBGR; SnapEDA_Link: https://www.snapeda.com/parts/BQ25790YBGR/Texas+Instruments/view-part/?ref=snap; Package: DSBGA-56 Texas Instruments; Value: *; Check_prices: https://www.snapeda.com/parts/BQ25790YBGR/Texas+Instruments/view-part/?ref=eda
footprint IC_BQ25790YBGR
pins: A1 VBUS (power), A2 PMID (power), A3 SW1 (out), A4 GND (power), A5 SW2 (out), A6 SYS (out), A7 BAT (power), B1 VBUS (power), B2 PMID (power), B3 SW1 (out), B4 GND (power), B5 SW2 (out), B6 SYS (out), B7 BAT (power), C1 VBUS (power), C2 PMID (power), C3 SW1 (out), C4 GND (power), C5 SW2 (out), C6 SYS (out), C7 BAT (power), D1 BTST1 (power), D2 PMID (power), D3 SW1 (out), D4 GND (power), D5 SW2 (out), D6 SYS (out), D7 BAT (power), E1 REGN (out), E2 PMID (power), E3 SW1 (out), E4 GND (power), E5 SW2 (out), E6 SYS (out), E7 BAT (power), F1 STAT (out), F2 D+ (io), F3 D- (io), F4 ILIM_HIZ (in), F5 PROG (in), F6 SDRV (out), F7 BTST2 (power), G1 VAC2 (in), G2 ACDRV2 (in), G3 ~{QON} (in), G4 ~{CE} (in), G5 ~{INT} (out), G6 BATN (in), G7 BATP (in), H1 VAC1 (in), H2 ACDRV1 (in), H3 ~{PG} (out), H4 SCL (in), H5 SDA (io), H6 IBAT (out), H7 TS (in)

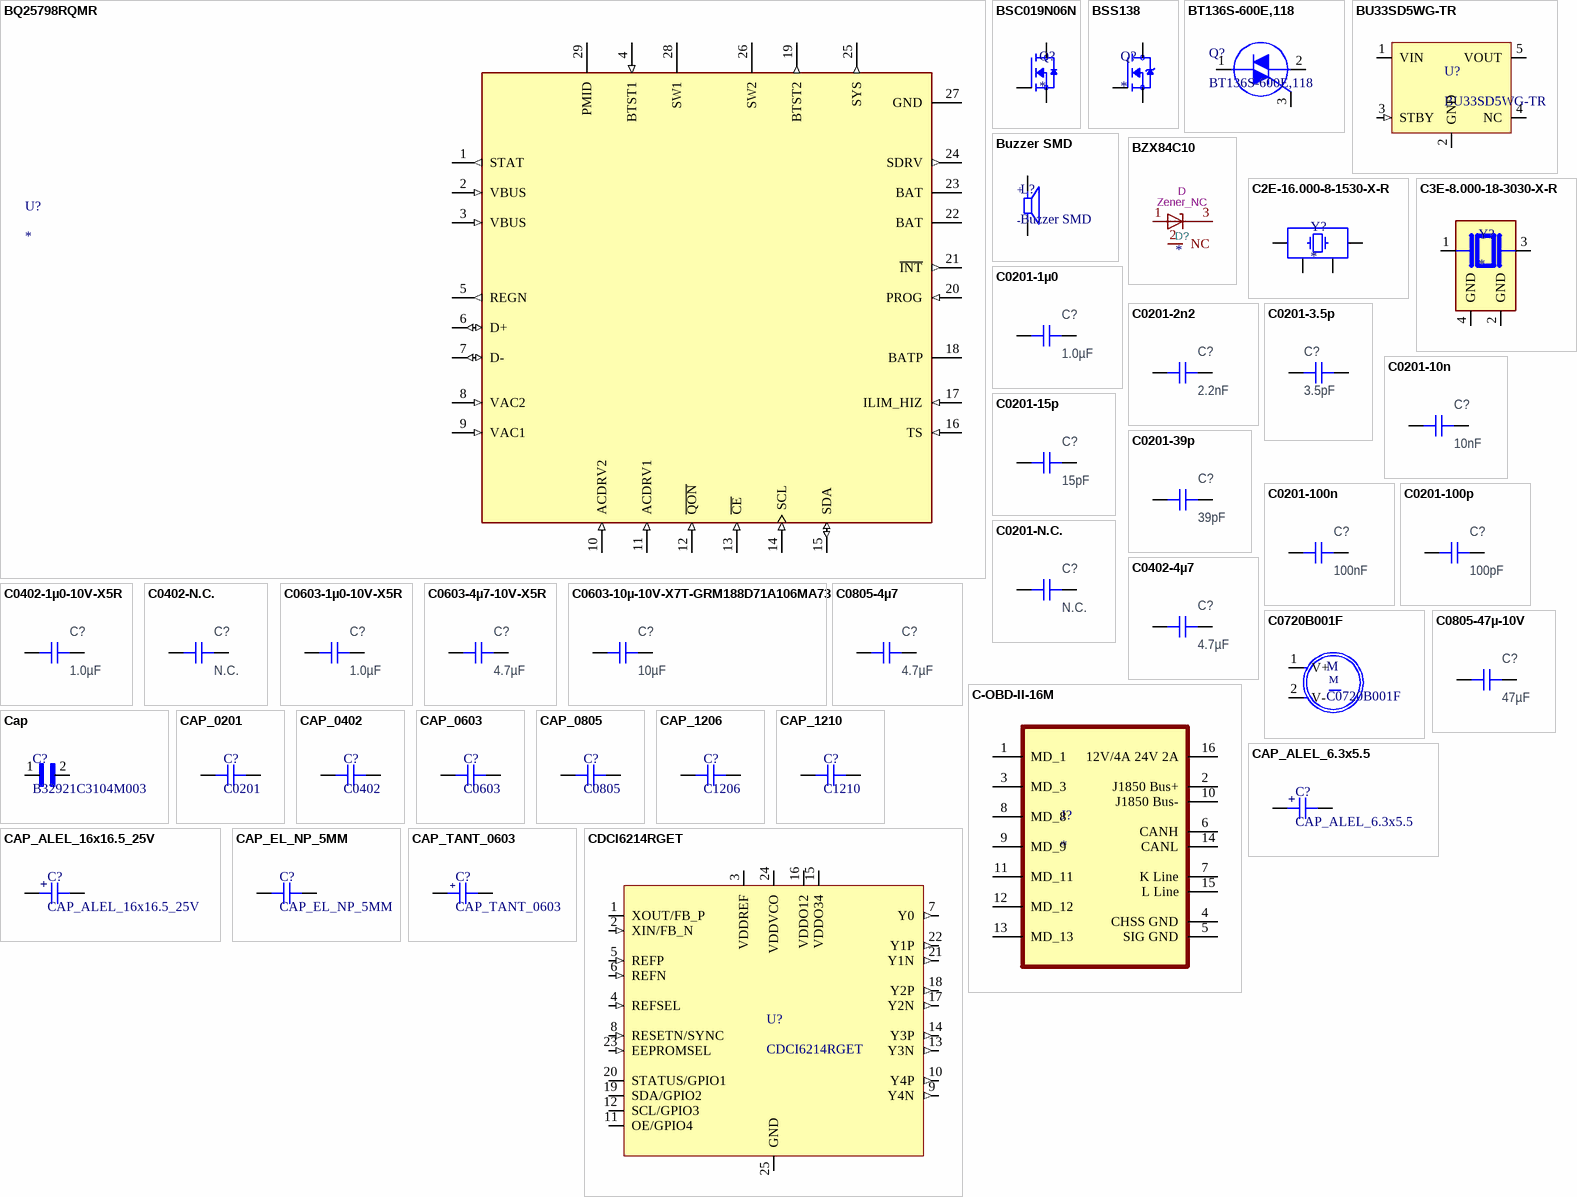
[diagram p9: symbols BQ25798RQMR to CDCI6214RGET]

## BQ25798RQMR
designator U?
IÂ²C controlled, 1-4-cell, 5-A buck-boost solar battery charger with dual-input selector and MPPT; MF: Texas Instruments; MP: BQ25798RQMR; SnapEDA_Link: https://www.snapeda.com/parts/BQ25798RQMR/Texas+Instruments/view-part/?ref=snap; Package: VFQFN-29 Texas Instruments; Value: *; Check_prices: https://www.snapeda.com/parts/BQ25798RQMR/Texas+Instruments/view-part/?ref=eda
footprint IC_BQ25798RQMR
pins: 1 STAT (out), 2 VBUS (in), 3 VBUS (in), 4 BTST1 (in), 5 REGN (out), 6 D+ (io), 7 D- (io), 8 VAC2 (in), 9 VAC1 (in), 10 ACDRV2 (in), 11 ACDRV1 (in), 12 ~{QON} (in), 13 ~{CE} (in), 14 SCL (in), 15 SDA (io), 16 TS (in), 17 ILIM_HIZ (in), 18 BATP (power), 19 BTST2 (out), 20 PROG (in), 21 ~{INT} (out), 22 BAT (power), 23 BAT (power), 24 SDRV (out), 25 SYS (out), 26 SW2, 27 GND (power), 28 SW1, 29 PMID

## BSC019N06N
designator Q?
N-Channel 60 V 100A (Ta) 136W (Ta) Surface Mount PG-TDSON-8 FL; MF: Infineon; MP: IPD122N10N3 G; SnapEDA_Link: https://www.snapeda.com/parts/IPD122N10N3%20G/Infineon/view-part/?ref=snap; Package: TO-252-3 Infineon; Value: *; Check_prices: https://www.snapeda.com/parts/IPD122N10N3%20G/Infineon/view-part/?ref=eda
footprint BSC014N04LSIATMA1
pins: 1 S, 4 G, 5 D

## BSS138
designator Q?
N-Channel 50 V 220mA (Ta) 350mW (Ta) Surface Mount SOT-23-3; MF: onsemi; MP: BSS138; SnapEDA_Link: https://www.snapeda.com/parts/BSS138/Onsemi/view-part/?ref=snap; Package: SOT-23-3 ON Semiconductor; Value: *; Check_prices: https://www.snapeda.com/parts/BSS138/Onsemi/view-part/?ref=eda
footprint SOT95P240X111-3N
pins: 1 G, 2 S, 3 D

## BT136S-600E,118
designator Q?
TRIAC Logic - Sensitive Gate 600 V 4 A Surface Mount DPAK; MF: WeEn Semiconductors; SnapEDA_Link: https://www.snapeda.com/parts/BT136S-600E,118/WeEn+Semiconductors/view-part/?ref=snap; Purchase-URL: https://pricing.snapeda.com/search/part/BT136S-600E,118/?ref=eda; MP: BT136S-600E,118; Check_prices: https://www.snapeda.com/parts/BT136S-600E,118/WeEn+Semiconductors/view-part/?ref=eda; Availability: In Stock; Package: TO-252-3 WeEn Semiconductors; Price: None; Value: *
footprint BT136S600E118
pins: 1 MT1 (io), 2 MT2 (io), 3 G (io)

## BU33SD5WG-TR
designator U?
LDO Voltage Regulator 3.3V 500mA; Manufacturer: ROHM Semiconductor; Manufacturer Part Number: BU33SD5WG-TR
footprint SOT-23-5 (SOT23, 5-Leads, Body 2,90x2,80mm, Pitch 0,95mm, IPC Medium Density)
pins: 1 VIN (power), 2 GND (power), 3 STBY (in), 4 NC, 5 VOUT (power)

## Buzzer SMD
designator L?
footprint Buzzer
pins: +, -

## BZX84C10
designator D?  value Zener_NC  Reference: D
ki_keywords: Zener Dual Diode Common Anode; ki_description: Zener Dual Diode Common Anode
footprint SOT-23 (SOT23, 3-Leads, Body 2,90x2,45mm, Pitch 0,95mm, IPC Medium Density)
pins: 1 A, 2 NC, 3 C

## C2E-16.000-8-1530-X-R
designator Y?
Crystal 16MHz Â±15ppm (Tol) Â±30ppm (Stability) 8pF FUND 100Ohm 4-Pin SMD T/R; MF: Aker Technology USA; MP: C2E-16.000-8-1530-X-R; SnapEDA_Link: https://www.snapeda.com/parts/C2E-16.000-8-1530-X-R/Aker/view-part/?ref=snap; Package: SMD-4 Aker; Value: *; Check_prices: https://www.snapeda.com/parts/C2E-16.000-8-1530-X-R/Aker/view-part/?ref=eda
footprint XTAL_C2E-16.000-8-1530-X-R
pins: 1, 2, 3, 4

## C3E-8.000-18-3030-X-R
designator Y?
Crystal, 3.20mm x2.50mm,8MHz,18pF,-40-85C; MF: Aker Technology USA; MP: C3E-8.000-18-3030-X-R; SnapEDA_Link: https://www.snapeda.com/parts/C3E-8.000-18-3030-X-R/Aker/view-part/?ref=snap; Package: SMD-4 Aker; Value: *; Check_prices: https://www.snapeda.com/parts/C3E-8.000-18-3030-X-R/Aker/view-part/?ref=eda
footprint XTAL_C3E-8.000-18-3030-X-R
pins: 1, 2 GND (power), 3, 4 GND (power)

## C0201-1µ0
designator C?, comment 1.0µF
Capacitor, X5R, ±10%; Part Number: C0201-1µ0; Manufacturer: N.A.; Part number IPS: 00000001723; Part number NEMS: 100200084; Note: 10V; Pad Count: 2; Component Status: Active; Manufacturer Part Number: N.A.; Footprint Doc: 0201; LatestRevisionDate: 2016-08-22; Published: 2009-05-08; Value: 1.0µF; Artikkelnr Noca: N.A.; ComponentLink1URL: N.A.; ComponentLink1Description: Datasheet; ComponentLink2URL: N.A.; ComponentLink2Description: Supplier link; HelpURL: N.A.; Supplier 1: Digi-Key; Supplier Part Number 1: 1276-6795-1-ND; Supplier 2: N.A.; Supplier Part Number 2: N.A.; PartId: 100200084; Component Class: Capacitors; Author: rsk; Part number Norautron: N.A.
footprint CAPC0603X03L_C
pins: 1, 2

## C0201-2n2
designator C?, comment 2.2nF
Capacitor, X7R, ±10%, 10V; Part Number: C0201-2n2; Manufacturer: N.A.; Part number IPS: 00000001778; Part number Norautron: 26470002; Part number NEMS: 100200060; Pad Count: 2; Component Status: Active; Value: 2.2nF; Footprint Doc: 0201; Component Class: Capacitors; Author: rsk; PartId: 100200060; Manufacturer Part Number: N.A.; ComponentLink1URL: N.A.; ComponentLink1Description: Datasheet; ComponentLink2URL: N.A.; ComponentLink2Description: Supplier link; HelpURL: N.A.; LatestRevisionDate: 2014-11-13; Published: 2014-11-13; Note: 10V; Supplier 1: N.A.; Supplier Part Number 1: N.A.; Supplier 2: N.A.; Supplier Part Number 2: N.A.; Artikkelnr Noca: N.A.
footprint CAPC0603X03L_C
pins: 1, 2

## C0201-3.5p
designator C?, comment 3.5pF
Capacitor, NP0, ±0.1pF, 25V; Part Number: C0201-3.5p; Manufacturer: Murata; Manufacturer Part Number: GJM0335C1H3R5BB01E; Part number IPS: 00000001469; Part number NEMS: 100200023; Artikkelnr Noca: N.A.; Pad Count: 2; Component Status: Active; ComponentLink1URL: N.A.; ComponentLink1Description: Datasheet; ComponentLink2URL: N.A.; ComponentLink2Description: Supplier link; HelpURL: N.A.; Footprint Doc: 0201; LatestRevisionDate: 2019-02-22; Published: 2019-02-22; Value: 3.5pF; Note: 25V; Supplier 1: N.A.; Supplier Part Number 1: N.A.; Supplier 2: N.A.; Supplier Part Number 2: N.A.; PartId: 100200023; Component Class: Capacitors; Author: rsk; Part number Norautron: N.A.
footprint CAPC0603X03L_C
pins: 1, 2

## C0201-10n
designator C?, comment 10nF
Capacitor, X7R, ±10%; Part Number: C0201-10n; Manufacturer: N.A.; Part number IPS: 00000003480; Part number Norautron: 26621779; Part number NEMS: 100200067; Note: 10V; Pad Count: 2; Component Status: Active; Manufacturer Part Number: N.A.; ComponentLink1URL: N.A.; ComponentLink1Description: Datasheet; ComponentLink2URL: N.A.; ComponentLink2Description: Supplier link; HelpURL: N.A.; Footprint Doc: 0201; LatestRevisionDate: 2017-11-09; Published: 2014-11-13; Value: 10nF; Supplier 1: N.A.; Supplier Part Number 1: N.A.; Supplier 2: N.A.; Supplier Part Number 2: N.A.; Artikkelnr Noca: N.A.; PartId: 100200067; Component Class: Capacitors; Author: rsk
footprint CAPC0603X03L_C
pins: 1, 2

## C0201-15p
designator C?, comment 15pF
Capacitor, NP0, ±5%, 25V; Part Number: C0201-15p; Manufacturer: Murata; Manufacturer Part Number: GRM0335C1E150JA01D; Part number IPS: 00000003193; Part number NEMS: 100200034; Artikkelnr Noca: N.A.; Pad Count: 2; Component Status: Active; ComponentLink1URL: N.A.; ComponentLink1Description: Datasheet; ComponentLink2URL: N.A.; ComponentLink2Description: Supplier link; HelpURL: N.A.; Footprint Doc: 0201; LatestRevisionDate: 2023-01-06; Published: 2014-11-13; Value: 15pF; Note: 25V; Supplier 1: N.A.; Supplier Part Number 1: N.A.; Supplier 2: N.A.; Supplier Part Number 2: N.A.; PartId: 100200034; Component Class: Capacitors; Author: rsk; Part number Norautron: N.A.
footprint CAPC0603X03L_C
pins: 1, 2

## C0201-39p
designator C?, comment 39pF
Capacitor, NP0, ±1%, 25V; Part Number: C0201-39p; Manufacturer: Murata; Manufacturer Part Number: GRM0335C1E390FA01; Part number IPS: 00000001668; Part number NEMS: 100200039; Artikkelnr Noca: N.A.; Pad Count: 2; Component Status: Active; ComponentLink1URL: N.A.; ComponentLink1Description: Datasheet; ComponentLink2URL: N.A.; ComponentLink2Description: Supplier link; HelpURL: N.A.; Footprint Doc: 0201; LatestRevisionDate: 2019-04-16; Published: 2019-04-16; Value: 39pF; Note: 25V; Supplier 1: N.A.; Supplier Part Number 1: N.A.; Supplier 2: N.A.; Supplier Part Number 2: N.A.; PartId: 100200039; Component Class: Capacitors; Author: rsk; Part number Norautron: N.A.
footprint CAPC0603X03L_C
pins: 1, 2

## C0201-100n
designator C?, comment 100nF
Capacitor, X5R, ±10%; Part Number: C0201-100n; Manufacturer: N.A.; Part number IPS: 00000001248, 00000002505; Part number Norautron: 262071862; Part number NEMS: 100200078; Note: 16V; Pad Count: 2; Component Status: Active; Manufacturer Part Number: N.A.; ComponentLink1URL: N.A.; ComponentLink1Description: Datasheet; ComponentLink2URL: N.A.; ComponentLink2Description: Supplier link; HelpURL: N.A.; Footprint Doc: 0201; LatestRevisionDate: 2017-11-09; Published: 2014-11-13; Value: 100nF; Artikkelnr Noca: N.A.; Supplier 1: N.A.; Supplier Part Number 1: N.A.; Supplier 2: N.A.; Supplier Part Number 2: N.A.; Component Class: Capacitors; PartId: 100200078; Author: rsk
footprint CAPC0603X03L_C
pins: 1, 2

## C0201-100p
designator C?, comment 100pF
Capacitor, NP0, ±2%, 25V; Part Number: C0201-100p; Manufacturer: Murata; Manufacturer Part Number: GRM0335C1E101GA01; Part number IPS: 00000007853; Part number NEMS: 100200044; Artikkelnr Noca: N.A.; Pad Count: 2; Component Status: Active; ComponentLink1URL: N.A.; ComponentLink1Description: Datasheet; ComponentLink2URL: N.A.; ComponentLink2Description: Supplier link; HelpURL: N.A.; Footprint Doc: 0201; LatestRevisionDate: 2019-04-16; Published: 2019-04-16; Value: 100pF; Note: 25V; Supplier 1: N.A.; Supplier Part Number 1: N.A.; Supplier 2: N.A.; Supplier Part Number 2: N.A.; PartId: 100200044; Component Class: Capacitors; Author: rsk; Part number Norautron: N.A.
footprint CAPC0603X03L_C
pins: 1, 2

## C0201-N.C.
designator C?, comment N.C.
Not mounted; Part Number: C0201-N.C.; Manufacturer: N.A.; Part number NEMS: 100200001; Note: Chip Cap; Assembly: Not mounted; Pad Count: 2; Component Status: Active; Manufacturer Part Number: N.A.; ComponentLink1URL: N.A.; ComponentLink1Description: Datasheet; ComponentLink2URL: N.A.; ComponentLink2Description: Supplier link; HelpURL: N.A.; Footprint Doc: 0201; LatestRevisionDate: 2014-11-13; Published: 2014-11-13; Value: N.C.; Artikkelnr Noca: N.A.; Part number IPS: N.A.; Supplier 1: N.A.; Supplier Part Number 1: N.A.; Supplier 2: N.A.; Supplier Part Number 2: N.A.; PartId: 100200001; Component Class: Capacitors; Author: rsk; Part number Norautron: N.A.
footprint CAPC0603X03L_C_NC
pins: 1, 2

## C0402-1µ0-10V-X5R
designator C?, comment 1.0µF
Capacitor, Ceramic, X5R, ±10%, 10V; Part Number: C0402-1µ0-10V-X5R; Manufacturer: N.A.; Part number NEMS: 100200482; Pad Count: 2; Component Status: Active; Value: 1.0µF; Footprint Doc: 0402; Component Class: Capacitors; Author: rubr; PartId: 100200482; Manufacturer Part Number: N.A.; ComponentLink1URL: N.A.; ComponentLink1Description: Datasheet; ComponentLink2URL: N.A.; ComponentLink2Description: Supplier link; HelpURL: N.A.; LatestRevisionDate: 2021-07-22; Published: 2021-07-22; Note: 10V; Supplier 1: N.A.; Supplier Part Number 1: N.A.; Supplier 2: N.A.; Supplier Part Number 2: N.A.; Artikkelnr Noca: N.A.; Part number IPS: N.A.; Part number Norautron: N.A.
footprint CAPC1005X04L
pins: 1, 2

## C0402-4µ7
designator C?, comment 4.7µF
Capacitor, X5R, ±20%; Part Number: C0402-4µ7; Manufacturer: N.A.; Part number IPS: 00000001251, 00000007165; Part number NEMS: 100200193; Note: 10V; Artikkelnr Noca: 20039482; Pad Count: 2; Component Status: Active; Manufacturer Part Number: N.A.; ComponentLink1URL: N.A.; ComponentLink1Description: Datasheet; ComponentLink2URL: N.A.; ComponentLink2Description: Supplier link; HelpURL: N.A.; Footprint Doc: 0402; LatestRevisionDate: 2017-11-09; Published: 2009-05-08; Value: 4.7µF; Supplier 1: Digi-Key; Supplier Part Number 1: 490-13252-1-ND; Supplier 2: N.A.; Supplier Part Number 2: N.A.; PartId: 100200193; Component Class: Capacitors; Author: rsk; Part number Norautron: N.A.
footprint CAPC1005X04L
pins: 1, 2

## C0402-N.C.
designator C?, comment N.C.
Not mounted; Part Number: C0402-N.C.; Manufacturer: N.A.; Part number NEMS: 100200105; Assembly: Not mounted; Note: Chip Cap; Pad Count: 2; Component Status: Active; Manufacturer Part Number: N.A.; ComponentLink1URL: N.A.; ComponentLink1Description: Datasheet; ComponentLink2URL: N.A.; ComponentLink2Description: Supplier link; HelpURL: N.A.; Footprint Doc: 0402; LatestRevisionDate: 2009-05-08; Published: 2009-05-08; Value: N.C.; Supplier 1: N.A.; Supplier Part Number 1: N.A.; Supplier 2: N.A.; Supplier Part Number 2: N.A.; Artikkelnr Noca: N.A.; Part number IPS: N.A.; PartId: 100200105; Component Class: Capacitors; Author: rsk; Part number Norautron: N.A.
footprint CAPC1005X04L_NC
pins: 1, 2

## C0603-1µ0-10V-X5R
designator C?, comment 1.0µF
Capacitor, Ceramic, 1.0µF 10V X5R 0603,±10%; Part Number: C0603-1µ0-10V-X5R; Manufacturer: N.A.; Part number NEMS: 100200528; Component Status: Active; Pad Count: 2; PartId: 100200528; Component Class: Capacitors; Author: getr; Manufacturer Part Number: N.A.; ComponentLink1URL: N.A.; ComponentLink1Description: Datasheet; ComponentLink2URL: N.A.; ComponentLink2Description: Supplier link; HelpURL: N.A.; LatestRevisionDate: 2022-10-06; Published: 2022-10-06; Footprint Doc: 0603; Value: 1.0µF; Note: 10V; Supplier 1: N.A.; Supplier Part Number 1: N.A.; Supplier 2: N.A.; Supplier Part Number 2: N.A.; Artikkelnr Noca: N.A.; Part number IPS: N.A.; Part number Norautron: N.A.
footprint CAPC1608X06L
pins: 1, 2

## C0603-4µ7-10V-X5R
designator C?, comment 4.7µF
Capacitor, Ceramic, X5R, ±10%, 10V; Part Number: C0603-4µ7-10V-X5R; Manufacturer: N.A.; Part number Norautron: 262081761; Part number NEMS: 100200479; Pad Count: 2; Component Status: Active; Manufacturer Part Number: N.A.; ComponentLink1URL: N.A.; ComponentLink1Description: Datasheet; ComponentLink2URL: N.A.; ComponentLink2Description: Supplier link; HelpURL: N.A.; Footprint Doc: 0603; LatestRevisionDate: 2021-07-22; Published: 2021-07-22; Value: 4.7µF; Note: 10V; Artikkelnr Noca: N.A.; Part number IPS: N.A.; Supplier 1: N.A.; Supplier Part Number 1: N.A.; Supplier 2: N.A.; Supplier Part Number 2: N.A.; PartId: 100200479; Component Class: Capacitors; Author: rubr
footprint CAPC1608X06L
pins: 1, 2

## C0603-10µ-10V-X7T-GRM188D71A106MA73
designator C?, comment 10µF
Capacitor, X7T, ±20%, 10V; Part Number: C0603-10µ-10V-X7T-GRM188D71A106MA73; Manufacturer: Murata; Manufacturer Part Number: GRM188D71A106MA73; Part number IPS: 00000004696; Part number NEMS: 100200414; Component Status: Active; Pad Count: 2; Note: 10VDC; Artikkelnr Noca: N.A.; PartId: 100200414; Component Class: Capacitors; Author: rsk; ComponentLink1URL: N.A.; ComponentLink1Description: Datasheet; ComponentLink2URL: N.A.; ComponentLink2Description: Supplier link; HelpURL: https://no.mouser.com/datasheet/2/281/murata_03052018_GRM_Series_1-1310166.pdf; LatestRevisionDate: 2021-07-22; Published: 2018-09-11; Footprint Doc: 0603; Value: 10µF; Supplier 1: Digi-Key; Supplier Part Number 1: 490-7200-1-ND; Supplier 2: Mouser; Supplier Part Number 2: 81-GRM188D71A106MA3D; Part number Norautron: N.A.
footprint CAPC1608X06L
pins: 1, 2

## C0720B001F
designator M
DC Motor Vibration, ERM 10000 RPM 3VDC; MF: Jinlong Machinery; Availability: Unavailable; SnapEDA_Link: https://www.snapeda.com/parts/C0720B001F/Jinlong%20Machinery%20%26%20Electronics%2C%20Inc./view-part/645169/?ref=snap; MP: C0720B001F; Value: *; Price: None; Package: Jinlong Machinery
footprint XDCR_C0720B001F
pins: 1 V+ (power), 2 V- (power)

## C0805-4µ7
designator C?, comment 4.7µF
Capacitor, X5R, ±10%, 16V; Part Number: C0805-4µ7; Manufacturer: N.A.; Part number IPS: 00000006289; Part number NEMS: 100200284; Artikkelnr Noca: 20039266; Pad Count: 2; Component Status: Active; Manufacturer Part Number: N.A.; ComponentLink1URL: N.A.; ComponentLink1Description: Datasheet; ComponentLink2URL: N.A.; ComponentLink2Description: Supplier link; HelpURL: N.A.; Footprint Doc: 0805; LatestRevisionDate: 2020-04-28; Published: 2009-08-21; Value: 4.7µF; Note: 16V; Supplier 1: N.A.; Supplier Part Number 1: N.A.; Supplier 2: N.A.; Supplier Part Number 2: N.A.; PartId: 100200284; Component Class: Capacitors; Author: rsk; Part number Norautron: N.A.
footprint CAPC2012X11L
pins: 1, 2

## C0805-47µ-10V
designator C?, comment 47µF
Capacitor, X5R, ±20%, 10V; Part Number: C0805-47µ-10V; Manufacturer: Murata; Manufacturer Part Number: GRM21BR61A476ME15; Part number IPS: 00000004759; Part number NEMS: 100200288; Artikkelnr Noca: N.A.; Pad Count: 2; Component Status: Active; ComponentLink1URL: https://search.murata.co.jp/Ceramy/image/img/A01X/G101/ENG/GRM21BR61A476ME15-01A.pdf; ComponentLink1Description: Datasheet; ComponentLink2URL: N.A.; ComponentLink2Description: Supplier link; HelpURL: https://www.murata.com/en-global/products/productdetail?partno=GRM21BR61A476ME15%23; Footprint Doc: 0805; LatestRevisionDate: 2020-10-23; Published: 2020-08-14; Value: 47µF; Note: 10V; Supplier 1: Digi-Key; Supplier Part Number 1: 490-9961-1-ND; Supplier 2: N.A.; Supplier Part Number 2: N.A.; PartId: 100200288; Component Class: Capacitors; Author: rsk; Part number Norautron: N.A.
footprint CAPC2012X11L
pins: 1, 2

## C-OBD-II-16M
designator J?
OBD II 16pin 90 Degree Angle Male Plug Connector; MF: Comtech Electronic Co., LTD; MP: C-OBD-II-16M; SnapEDA_Link: https://www.snapeda.com/parts/C-OBD-II-16M/Comtech+Electronic+Co.%252C+LTD/view-part/?ref=snap; Package: None; Value: *; Check_prices: https://www.snapeda.com/parts/C-OBD-II-16M/Comtech+Electronic+Co.%252C+LTD/view-part/?ref=eda
footprint COMTECH_C-OBD-II-16M
pins: 1 MD_1, 2 J1850 Bus+, 3 MD_3, 4 CHSS GND, 5 SIG GND, 6 CANH, 7 K Line, 8 MD_8, 9 MD_9, 10 J1850 Bus-, 11 MD_11, 12 MD_12, 13 MD_13, 14 CANL, 15 L Line, 16 12V/4A 24V 2A

## Cap
designator C?, comment B32921C3104M003
Safety Capacitors FILM CAP MKP X2 0.10uF 20% 305Vac LS 10mm - short leads; MF: TDK; Package: None; Price: None; MP: B32921C3104M003; Availability: In Stock; Value: *; Check_prices: https://www.snapeda.com/parts/B32921C3104M003/TDK/view-part/?ref=eda; Purchase-URL: https://pricing.snapeda.com/search/part/B32921C3104M003/?ref=eda; SnapEDA_Link: https://www.snapeda.com/parts/B32921C3104M003/TDK/view-part/?ref=snap
footprint CAPRR1000W60L1300T600H1200
pins: 1, 2

## CAP_0201
designator C?, comment C0201
Capacitor SMD 0201; Manufacturer: *; Manufacturer Part Number: *; Distributor Link: *; LCSC: *; Rating: *; Dielectric: *
footprint CAP_0201
pins: 1, 2

## CAP_0402
designator C?, comment C0402
Capacitor SMD 0402; Manufacturer: *; Manufacturer Part Number: *; Distributor Link: *; LCSC: *; Rating: *; Dielectric: *
footprint CAP_0402
pins: 1, 2

## CAP_0603
designator C?, comment C0603
Capacitor SMD 0603; Manufacturer: *; Manufacturer Part Number: *; Distributor Link: *; LCSC: *; Rating: *; Dielectric: *
footprint CAP_0603
pins: 1, 2

## CAP_0805
designator C?, comment C0805
Capacitor SMD 0805; Manufacturer: *; Manufacturer Part Number: *; Distributor Link: *; LCSC: *; Rating: *; Dielectric: *
footprint CAP_0805
pins: 1, 2

## CAP_1206
designator C?, comment C1206
Capacitor SMD 1206; Manufacturer: *; Manufacturer Part Number: *; Distributor Link: *; LCSC: *; Rating: *; Dielectric: *
footprint CAP_1206
pins: 1, 2

## CAP_1210
designator C?, comment C1210
Capacitor SMD 1210; Manufacturer: *; Manufacturer Part Number: *; Distributor Link: *; LCSC: *; Rating: *; Dielectric: *
footprint CAP_1210
pins: 1, 2

## CAP_ALEL_6.3x5.5
designator C?
Capacitor SMD Aluminium Electrolytic 6.3mm Diameter 5.5mm Height; Manufacturer: *; Manufacturer Part Number: *; Distributor Link: *; LCSC: *
footprint CAP_AE_SMD_D6MM3_H5M55 (Aluminum Electrolytic Capacitor, Body 6.30x6.60x5.50mm, IPC Low Density)
pins: 1, 2
text: +

## CAP_ALEL_16x16.5_25V
designator C?
Capacitor SMD Aluminium Electrolytic 16x16.5mm 25V; Manufacturer: *; Manufacturer Part Number: *
footprint CAP_ALEL_16x16.5 (Aluminum Electrolytic Capacitor, Body 17.00x17.00x17.00mm, IPC Low Density)
pins: 1, 2
text: +

## CAP_EL_NP_5MM
designator C?
Capacitor SMD Electrolytic Non-Polarised 5mm Diameter; Manufacturer: Nichicon; Manufacturer Part Number: *
footprint CAP-EL-NP-5MM
pins: 1, 2

## CAP_TANT_0603
designator C?
Capacitor SMD Tantalum 0603; Manufacturer: *; Manufacturer Part Number: *; Distributor Link: *; LCSC: *
footprint CAP_TANT_0603
pins: A, K
text: +

## CDCI6214RGET
designator U?
Ultra-Low Power Clock Generator With PCIe Support Four Programmable Outputs and EEPROM; Manufacturer: Texas Instruments; Manufacturer Part Number: CDCI6214RGET; Distributor Link: https://eu.mouser.com/ProductDetail/Texas-Instruments/CDCI6214RGET?qs=HXFqYaX1Q2znJq%252BVfYpkgA%3D%3D; LCSC: C2651236
footprint VQFN-24-0MM5
pins: 1 XOUT/FB_P (io), 2 XIN/FB_N (in), 3 VDDREF (power), 4 REFSEL (in), 5 REFP (in), 6 REFN (in), 7 Y0 (out), 8 RESETN/SYNC (in), 9 Y4N (out), 10 Y4P (out), 11 OE/GPIO4 (io), 12 SCL/GPIO3 (io), 13 Y3N (out), 14 Y3P (out), 15 VDDO34 (power), 16 VDDO12 (power), 17 Y2N (out), 18 Y2P (out), 19 SDA/GPIO2 (io), 20 STATUS/GPIO1 (io), 21 Y1N (out), 22 Y1P (out), 23 EEPROMSEL (in), 24 VDDVCO (power), 25 GND (power)

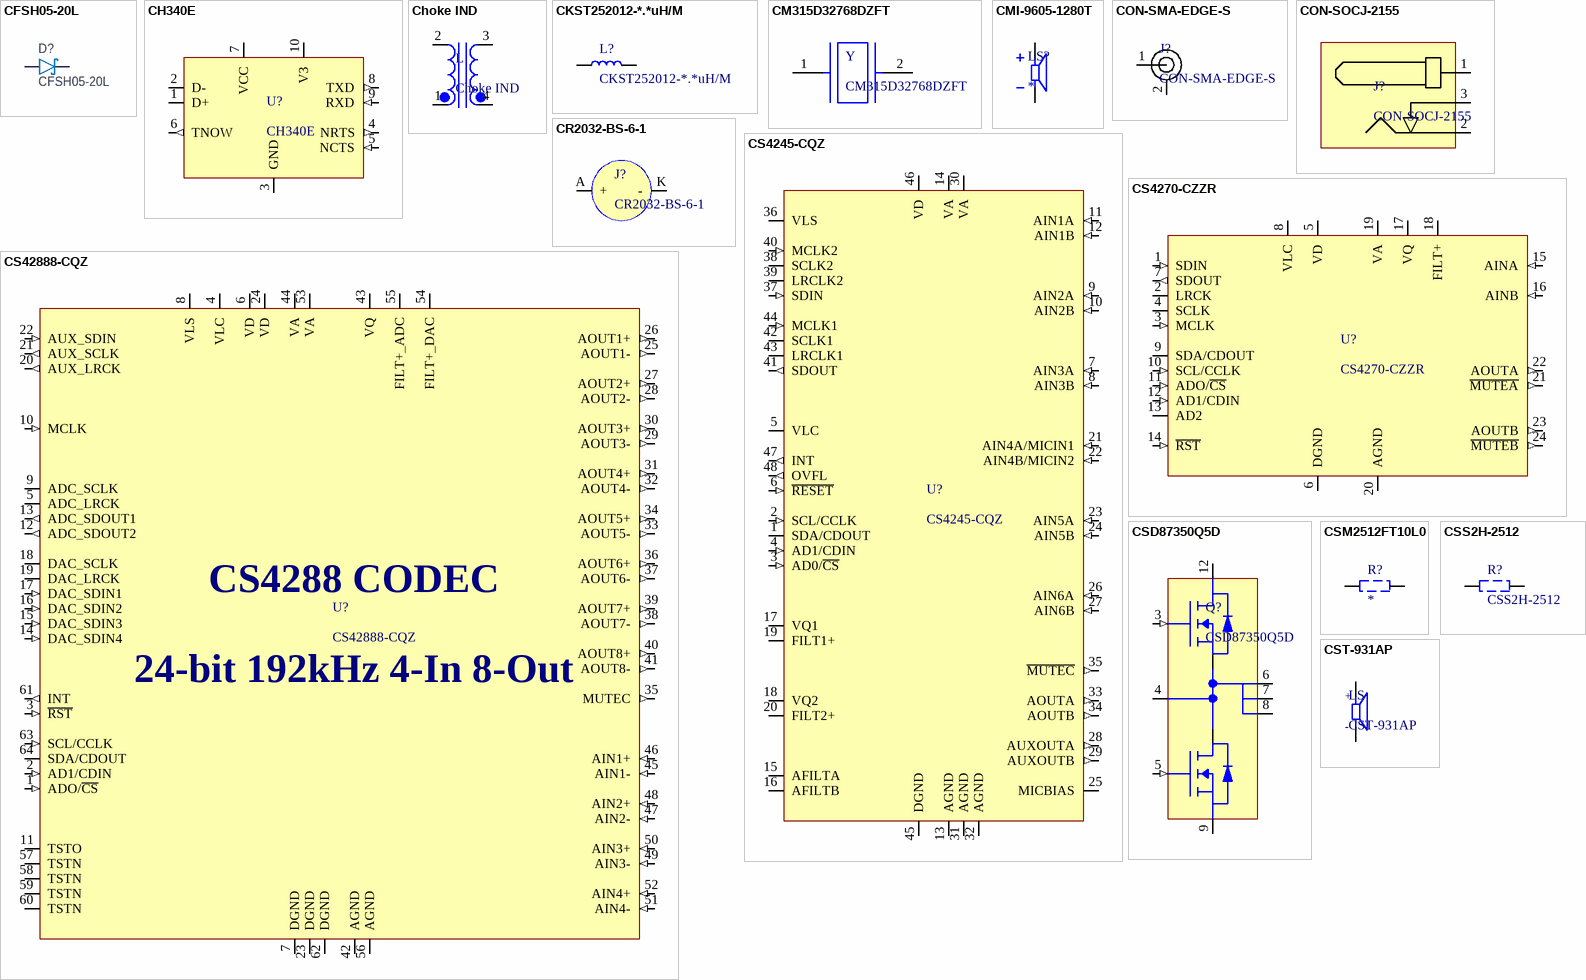
[diagram p10: symbols CFSH05-20L to CST-931AP]

## CFSH05-20L
designator D?
DIODE SCHOTTKY 20V 500MA SOD882; Manufacturer: Central Semiconductor Corp.; Part number IPS: 00000002493; Part number NEMS: 101300101; Note: N.A.; Pad Count: 2; Component Status: Active; Part Number: CFSH05-20L; Manufacturer Part Number: CFSH05-20L; Footprint Doc: SOD-882L; LatestRevisionDate: 2015-01-30; Published: 2015-01-30; Value: CFSH05-20L; Artikkelnr Noca: N.A.; ComponentLink1URL: N.A.; ComponentLink1Description: Datasheet; ComponentLink2URL: N.A.; ComponentLink2Description: Supplier link; HelpURL: http://www.centralsemi.com/PDFs/products/CFSH05-20L.PDF; Supplier 1: Digi-Key; Supplier Part Number 1: CFSH05-20L CT-ND; Supplier 2: N.A.; Supplier Part Number 2: N.A.; PartId: 101300101; Component Class: Semiconductors; Author: rsk; Part number Norautron: N.A.
footprint SODFL35X40-2N
pins: 1 A, 3 C

## CH340E
designator U?
USB-to-UART Transceiver MSOP-10; Manufacturer Part Number: CH340E
footprint MSOP-10
pins: 1 D+ (io), 2 D- (io), 3 GND (power), 4 NRTS (out), 5 NCTS (in), 6 TNOW (out), 7 VCC (power), 8 TXD (out), 9 RXD (in), 10 V3 (power)

## Choke IND
designator L
Inductor; Ind 2.4 mH; Cur-Rtg 17 A; DCR 0.008 Ohms; PCB; Common Mode; Toroidal; MF: Triad Magnetics; MP: CMT-8120; Package: Vertical-4 Triad Magnetics; Price: None; Value: *; SnapEDA_Link: https://www.snapeda.com/parts/CMT-8120/Triad%20Magnetics/view-part/1543584/?ref=snap; Availability: Unavailable
footprint IND_CMT-8120
pins: 1, 2, 3, 4

## CKST252012-*.*uH/M
designator L?
Inductor SMD Shielded 20%; Manufacturer: Shenzhen Cenker Enterprise Ltd; Manufacturer Part Number: CKST252012-*.*uH/M; Distributor Link: *
footprint CKST252012
pins: 1, 2

## CM315D32768DZFT
designator Y
32.768kHz Â±20ppm Crystal 12.5pF 70 kOhms 2-SMD, No Lead; MF: Citizen Finedevice; Package: SMD-2 Citizen Finedevice; Price: None; Availability: Unavailable; MP: CM315D32768DZFT; SnapEDA_Link: https://www.snapeda.com/parts/CM315D32768DZFT/Citizen%20Finedevice%20Co%20Ltd/view-part/652327/?ref=snap; Value: *
footprint XTAL_CM315D32768DZFT
pins: 1 P$1, 2 P$2

## CMI-9605-1280T
designator LS?
9.6 mm, 12 Vdc, 80 dB, Through Hole, Driving Circuit, Magnetic Audio Indicator Buzzer; MF: Same Sky; MP: CMI-9605-1280T; SnapEDA_Link: https://www.snapeda.com/parts/CMI-9605-1280T/Same+Sky/view-part/?ref=snap; Package: CUI Inc.; Value: *; Check_prices: https://www.snapeda.com/parts/CMI-9605-1280T/Same+Sky/view-part/?ref=eda
footprint CUI_CMI-9605-1280T
pins: N, P

## CON-SMA-EDGE-S
designator J?
RF Connector SMA Female 50 Ohms 18 GHz PCB Edge Mount; Manufacturer: RF Solutions; Manufacturer Part Number: CON-SMA-EDGE-S
footprint CON-SMA-EDGE-S
pins: 1, 2

## CON-SOCJ-2155
designator J?
DC Barrell Jack 2.1mm 30V 2.5A THT; Manufacturer: Gravitech; Manufacturer Part Number: CON-SOCJ-2155
footprint CON-SOCJ-2155
pins: 1, 2, 3

## CR2032-BS-6-1
designator J?
CR2032 Coin Cell Battery Holder; Manufacturer: Q&J; Manufacturer Part Number: CR2032-BS-6-1
footprint CR2032
pins: A +, K -